# EAGLE library part IC_GENERIC_14_PLUS_EP (library SnapEDA)
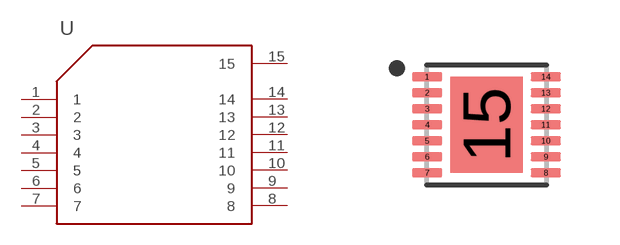
[diagram p17: symbol with the pads of SON40P300X300X75-14N; footprint SON40P300X300X75-14N]

Designator prefix U

## IC_GENERIC_14_PLUS_EP-DFN-14_PLUS_EP  [SON40P300X300X75-14N]
1  1
2  2
3  3
4  4
5  5
6  6
7  7
8  8
9  9
10  10
11  11
12  12
13  13
14  14
15  15

## Footprint SON40P300X300X75-14N (pad centres in mm)
smd 0.76 x 0.22: 1 -1.485,1.2; 2 -1.485,0.8; 3 -1.485,0.4; 4 -1.485,0; 5 -1.485,-0.4; 6 -1.485,-0.8; 7 -1.485,-1.2; 8 1.485,-1.2; 9 1.485,-0.8; 10 1.485,-0.4; 11 1.485,0; 12 1.485,0.4; 13 1.485,0.8; 14 1.485,1.2
smd 1.81 x 2.4: 15 0,0